# EAGLE library part TD-135-G-A-2 (library SAMTEC-Txx_By_element14_Batch_1)
CONN RECEPTACLE, 2.54MM, THT VERT, 70WAY
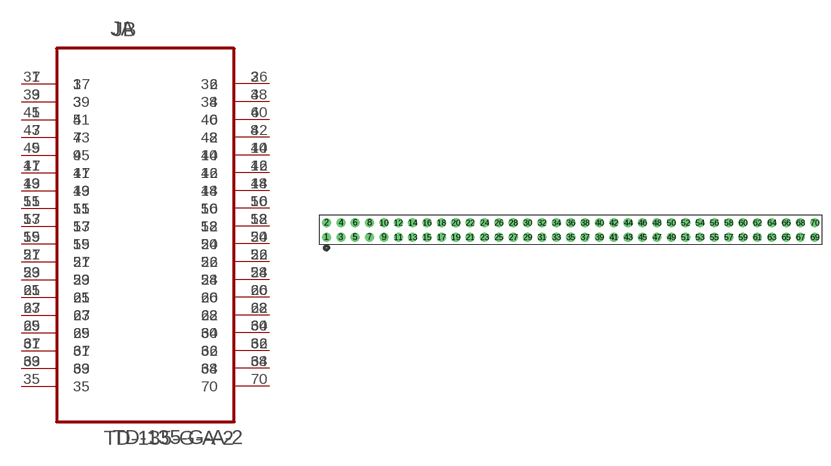
[diagram p117: symbol with the pads of SAMTEC_TD-135-G-A-2; footprint SAMTEC_TD-135-G-A-2]

Designator prefix J; gates A=TD-135-G-A-2_A B=TD-135-G-A-2_B

## TD-135-G-A-2 (MPN: TD-135-G-A-2; OC_FARNELL: 2020289; OC_NEWARK: -; PACKAGE: RECEPTACLE, 2.54MM, THT VERT, 70WAY; SUPPLIER: SAMTEC)  [SAMTEC_TD-135-G-A-2]
1  A:1  pas
2  A:2  pas
3  A:3  pas
4  A:4  pas
5  A:5  pas
6  A:6  pas
7  A:7  pas
8  A:8  pas
9  A:9  pas
10  A:10  pas
11  A:11  pas
12  A:12  pas
13  A:13  pas
14  A:14  pas
15  A:15  pas
16  A:16  pas
17  A:17  pas
18  A:18  pas
19  A:19  pas
20  A:20  pas
21  A:21  pas
22  A:22  pas
23  A:23  pas
24  A:24  pas
25  A:25  pas
26  A:26  pas
27  A:27  pas
28  A:28  pas
29  A:29  pas
30  A:30  pas
31  A:31  pas
32  A:32  pas
33  A:33  pas
34  A:34  pas
35  A:35  pas
36  B:36  pas
37  B:37  pas
38  B:38  pas
39  B:39  pas
40  B:40  pas
41  B:41  pas
42  B:42  pas
43  B:43  pas
44  B:44  pas
45  B:45  pas
46  B:46  pas
47  B:47  pas
48  B:48  pas
49  B:49  pas
50  B:50  pas
51  B:51  pas
52  B:52  pas
53  B:53  pas
54  B:54  pas
55  B:55  pas
56  B:56  pas
57  B:57  pas
58  B:58  pas
59  B:59  pas
60  B:60  pas
61  B:61  pas
62  B:62  pas
63  B:63  pas
64  B:64  pas
65  B:65  pas
66  B:66  pas
67  B:67  pas
68  B:68  pas
69  B:69  pas
70  B:70  pas

## Footprint SAMTEC_TD-135-G-A-2 (pad centres in mm)
drill 1.067: 1 -86.36,-2.54; 2 -86.36,0; 3 -83.82,-2.54; 4 -83.82,0; 5 -81.28,-2.54; 6 -81.28,0; 7 -78.74,-2.54; 8 -78.74,0; 9 -76.2,-2.54; 10 -76.2,0; 11 -73.66,-2.54; 12 -73.66,0; 13 -71.12,-2.54; 14 -71.12,0; 15 -68.58,-2.54; 16 -68.58,0; 17 -66.04,-2.54; 18 -66.04,0; 19 -63.5,-2.54; 20 -63.5,0; 21 -60.96,-2.54; 22 -60.96,0; 23 -58.42,-2.54; 24 -58.42,0; 25 -55.88,-2.54; 26 -55.88,0; 27 -53.34,-2.54; 28 -53.34,0; 29 -50.8,-2.54; 30 -50.8,0; 31 -48.26,-2.54; 32 -48.26,0; 33 -45.72,-2.54; 34 -45.72,0; 35 -43.18,-2.54; 36 -43.18,0; 37 -40.64,-2.54; 38 -40.64,0; 39 -38.1,-2.54; 40 -38.1,0; 41 -35.56,-2.54; 42 -35.56,0; 43 -33.02,-2.54; 44 -33.02,0; 45 -30.48,-2.54; 46 -30.48,0; 47 -27.94,-2.54; 48 -27.94,0; 49 -25.4,-2.54; 50 -25.4,0; 51 -22.86,-2.54; 52 -22.86,0; 53 -20.32,-2.54; 54 -20.32,0; 55 -17.78,-2.54; 56 -17.78,0; 57 -15.24,-2.54; 58 -15.24,0; 59 -12.7,-2.54; 60 -12.7,0; 61 -10.16,-2.54; 62 -10.16,0; 63 -7.62,-2.54; 64 -7.62,0; 65 -5.08,-2.54; 66 -5.08,0; 67 -2.54,-2.54; 68 -2.54,0; 69 0,-2.54; 70 0,0